# Altium schematic symbol library SWITCH_SPDT.SchLib: 1 symbol
Pins are listed as number, name and electrical type; pins without a type are passive.

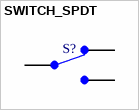
[diagram p0: symbol SWITCH_SPDT]

## SWITCH_SPDT
designator S?  (value not drawn)
pins: 1, 2, 3